# Altium schematic symbol library devkit-visao.SchLib: 57 symbols (part 1 of 2)
Pins are listed as number, name and electrical type; pins without a type are passive.

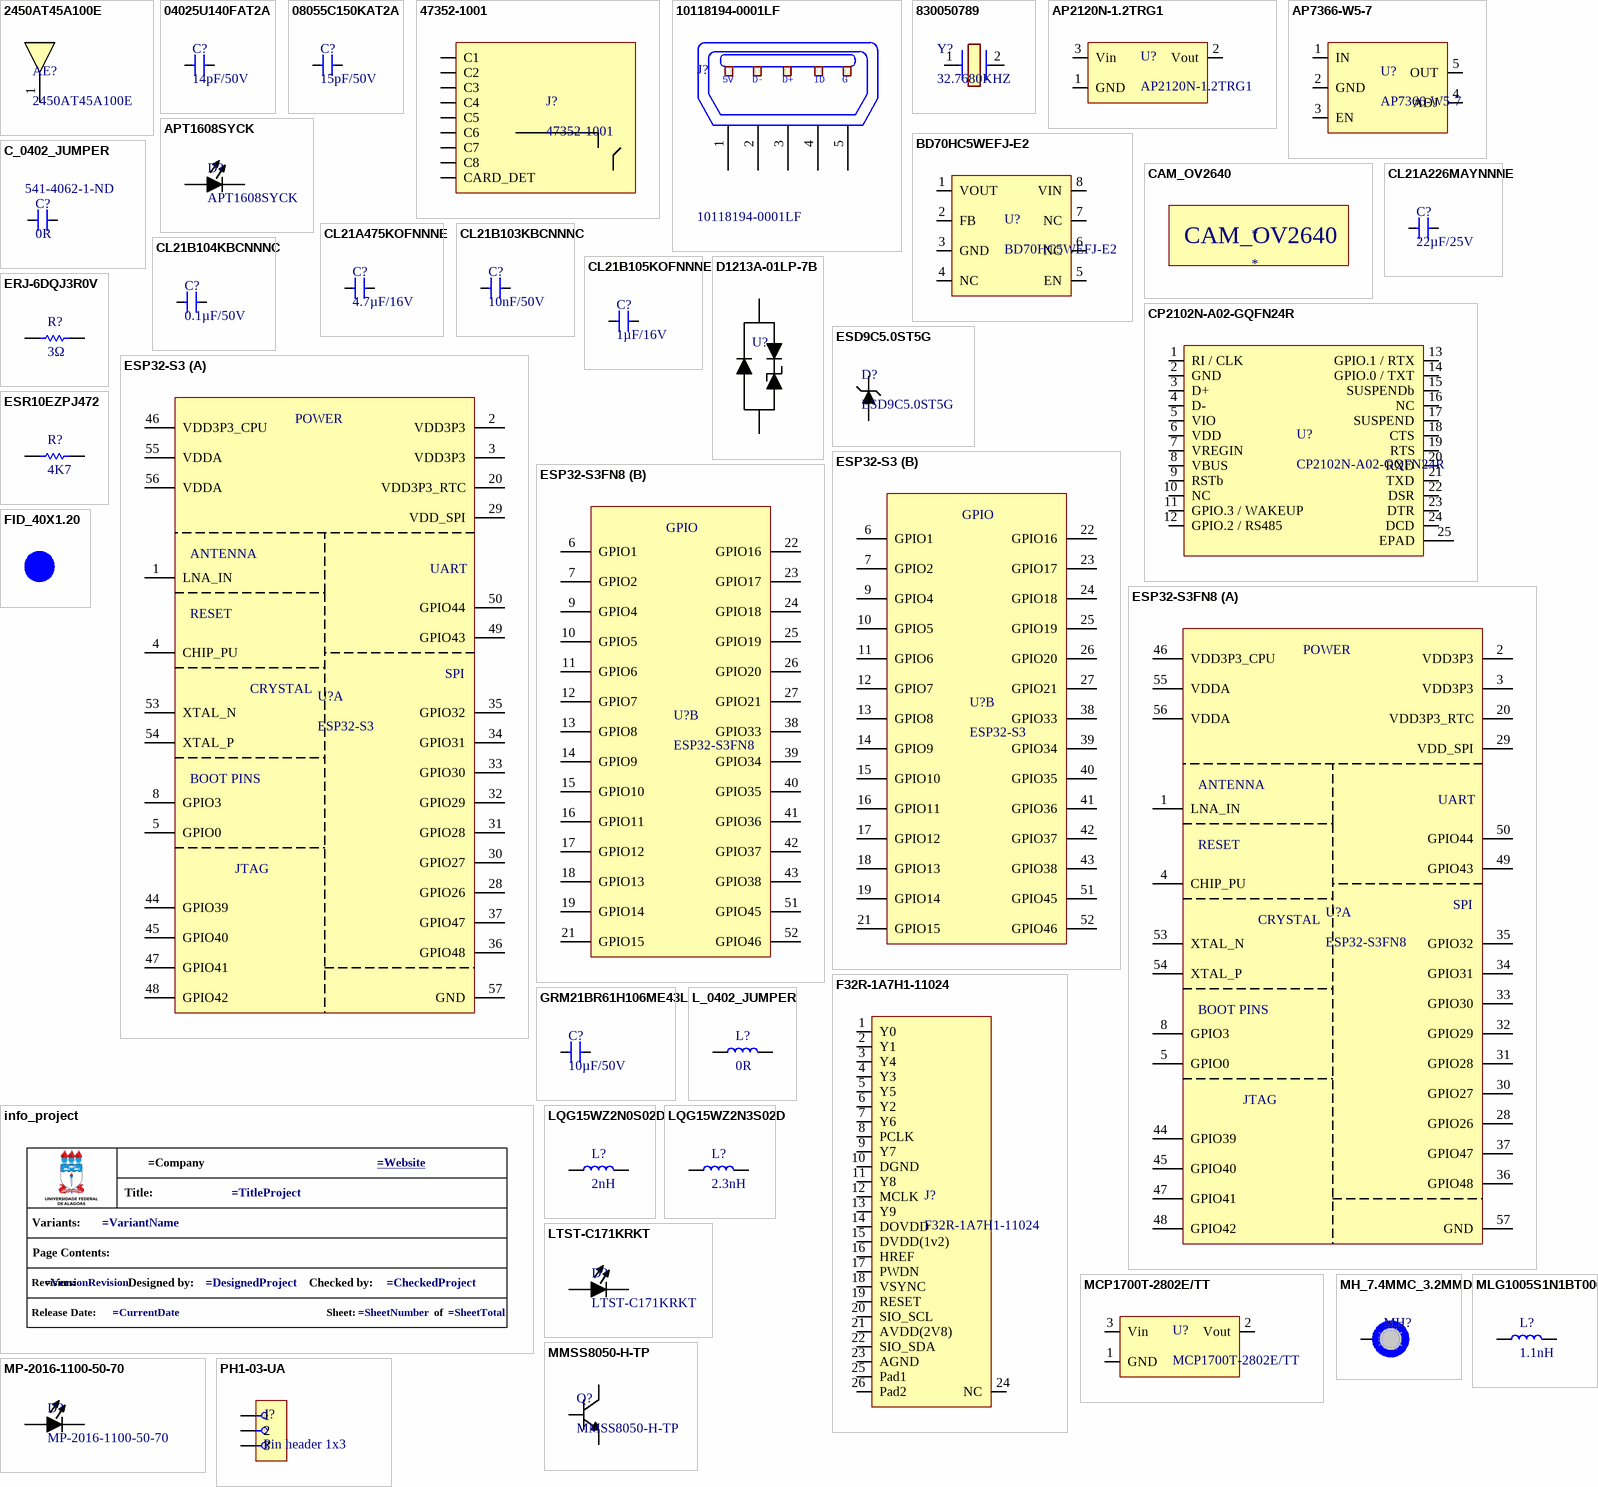
[diagram p0: symbols 2450AT45A100E to PH1-03-UA]

## 2450AT45A100E
designator AE?
RF ANT - 2.4GHZ CHIP SOLDER SMD; Manufacturer 1: Johanson; Impedance: 50R; Power Rating: 3W; Bandwidth: 100MHz; Number of Bands: 1; Return Loss: -9.5dB; Frequency: 2.45GHz; Gain: 1dB; Max Frequency: 2.5GHz; .SCHChecked: Alex Batista; Supplier 1: Digi-Key; Stock 1: 275; Pricing 1: 1=0.94000, 10=0.84100, 25=0.79800, 100=0.65550, 250=0.61276, 500=0.54150 (USD); RoHS: Yes; Mount: Surface Mount; Number of Pins: 2; Min Operating Temperature: -40°C; Max Operating Temperature: 85°C; Package Quantity: 1; Packaging: Tape and Reel; Max Power Dissipation: 3W; Termination: Solder; Resistor Type: Ceramic; Length: 9.5mm; Width: 2mm; Height: 0.047inch; Radiation Hardening: No; REACH SVHC: No SVHC; ComponentLink1URL: https://datasheet.ciiva.com/1126/1296113-1126176.pdf?src-supplier=Newark; ComponentLink1Description: https://datasheet.ciiva.com/1126/1296113-1126176.pdf?src-supplier=Newark; ComponentLink2URL: https://datasheet.ciiva.com/2791/jti-antenna-2450at45a100-2006-07-2791936.pdf?src-supplier=Digi-Key; ComponentLink2Description: https://datasheet.ciiva.com/2791/jti-antenna-2450at45a100-2006-07-2791936.pdf?src-supplier=Digi-Key; ComponentLink3URL: https://datasheet.ciiva.com/6748/antenna-2450at45a100-v5-6748578.pdf?src-supplier=Newark; ComponentLink3Description: https://datasheet.ciiva.com/6748/antenna-2450at45a100-v5-6748578.pdf?src-supplier=Newark; ComponentLink4URL: https://datasheet.ciiva.com/24068/antenna-2450at45a100-v5-242465-24068002.pdf?src-supplier=Mouser; ComponentLink4Description: https://datasheet.ciiva.com/24068/antenna-2450at45a100-v5-242465-24068002.pdf?src-supplier=Mouser; ComponentLink5URL: https://datasheet.ciiva.com/2791/jti-antenna-2450at45a100-2006-07-2791937.pdf?src-supplier=Digi-Key; ComponentLink5Description: https://datasheet.ciiva.com/2791/jti-antenna-2450at45a100-2006-07-2791937.pdf?src-supplier=Digi-Key; ComponentLink6URL: https://datasheet.ciiva.com/2791/jti-antenna-2450at45a100-2006-07-2791938.pdf?src-supplier=Digi-Key; ComponentLink6Description: https://datasheet.ciiva.com/2791/jti-antenna-2450at45a100-2006-07-2791938.pdf?src-supplier=Digi-Key; ComponentLink7URL: https://datasheet.ciiva.com/1124/1318299-1124920.pdf?src-supplier=Element14; ComponentLink7Description: https://datasheet.ciiva.com/1124/1318299-1124920.pdf?src-supplier=Element14; Supplier Part Number 1: 712-1012-1-ND; .PCBChecked: Alex Batista; Manufacturer Part Number 1: 2450AT45A100E
footprint 2450AT45A100E
pins: 1 Feeding Point

## 04025U140FAT2A
designator C?, comment 14pF/50V
MLCC - 14pF 0402 50V NP0 ±1%; Manufacturer 1: Kyocera AVX; Manufacturer Part Number 1: 04025U140FAT2A; Dielectric: C0G; .PCBChecked: Victor H; Supplier 1: Digi-Key; RoHS: Yes; Category: Ceramic Capacitors; Stock 1: 104186; Pricing 1: 1=0,37000, 10=0,25100, 50=0,16760, 100=0,14250, 500=0,10058, 1000=0,08801, 2500=0,08382, 5000=0,07753 (USD); Mount: Surface Mount; Case/Package: 0402; Case Code (Imperial): 0402; Case Code (Metric): 1005; Min Operating Temperature: -55°C; Max Operating Temperature: 125°C; Capacitance: 14pF; Package Quantity: 10000; Voltage Rating: 50V; Voltage Rating (DC): 50V; Tolerance: 1%; Packaging: Tape and Reel; Termination: SMD/SMT; Resistor Type: Ceramic; Series: U; Construction: Flat; Length: 1mm; Width: 0.5mm; Thickness: 0.022inch; Depth: 0.5mm; Radiation Hardening: No; RoHS Compliant: Yes; ComponentLink1URL: https://datasheet.ciiva.com/11568/useries-11568551.pdf?src-supplier=Avnet; ComponentLink1Description: https://datasheet.ciiva.com/11568/useries-11568551.pdf?src-supplier=Avnet; ComponentLink2URL: https://datasheet.ciiva.com/6269/useries-6269558.pdf?src-supplier=Digi-Key; ComponentLink2Description: https://datasheet.ciiva.com/6269/useries-6269558.pdf?src-supplier=Digi-Key; Supplier Part Number 1: 478-10139-1-ND; .SCHChecked: Victor H
footprint C0402
pins: 1, 2

## 08055C150KAT2A
designator C?, comment 15pF/50V
MLCC - 15pF 0805 50V X7R ±10%; Manufacturer 1: Kyocera AVX; Manufacturer Part Number 1: 08055C150KAT2A; .SCHChecked: Victor Holanda; .PCBChecked: Victor Holanda; Supplier 1: Digi-Key; RoHS: Yes; Category: Ceramic Capacitors; Stock 1: 16775; Pricing 1: 1=0,23000, 10=0,15700, 50=0,09400, 100=0,07940, 500=0,05434, 1000=0,04807 (USD); Mount: Surface Mount; Case/Package: 0805; Number of Pins: 2; Case Code (Metric): 2012; Case Code (Imperial): 0805; Min Operating Temperature: -55°C; Max Operating Temperature: 125°C; Packaging: Tape and Reel; Capacitance: 15pF; Tolerance: 10%; Package Quantity: 4000; Voltage Rating: 50V; Voltage Rating (DC): 50V; Dielectric: X7R; Termination: SMD/SMT; Construction: Flat; Length: 2.01mm; Width: 0.049inch; Thickness: 0.037inch; Depth: 1.25mm; Radiation Hardening: No; REACH SVHC: Unknown; Supplier 2: Mouser; Supplier Part Number 1: 478-11902-1-ND; Supplier Part Number 2: 581-08055C150KAT2A
footprint C0805
pins: 1, 2

## 47352-1001
designator J?
CONN - Micro SD Card HDR 8 POS 1.1mm Solder RA SMD 0.5A/Contact Embossed T/R; Manufacturer 1: Molex; Number of Contacts: 8; Gender: Male; Connector Type: Connector; Max Voltage Rating (DC): 100V; Current Rating: 500mA; .SCHChecked: Alex Batista; Supplier 1: Digi-Key; Manufacturer Part Number 1: 47352-1001; RoHS: Yes; Category: Memory Connectors; Stock 1: 14775; Pricing 1: 1=3,58000, 10=3,15500, 100=2,50930 (USD); Mount: Surface Mount; Contact Material: Stainless Steel,Copper Alloy,Copper; Contact Plating: Gold; Housing Material: Polymer; Min Operating Temperature: -20°C; Max Operating Temperature: 85°C; Number of Rows: 1; Packaging: Tape and Reel; Orientation: Right Angle; Package Quantity: 1; Termination: SMD/SMT; Series: 47352; Voltage Rating (DC): 100V; Length: 14mm; Width: 1.88mm; Pitch: 1.1mm; Depth: 15.2mm; Radiation Hardening: No; REACH SVHC: Unknown; ComponentLink1URL: https://datasheet.ciiva.com/683/473521001-sd-683625.pdf?src-supplier=Digi-Key; ComponentLink1Description: https://datasheet.ciiva.com/683/473521001-sd-683625.pdf?src-supplier=Digi-Key; ComponentLink2URL: https://datasheet.ciiva.com/11755/0900766b80f75287-11755041.pdf?src-supplier=RSComponents; ComponentLink2Description: https://datasheet.ciiva.com/11755/0900766b80f75287-11755041.pdf?src-supplier=RSComponents; ComponentLink3URL: https://datasheet.ciiva.com/16547/0473521001-memory-card-socket-16547169.pdf?src-supplier=Avnet+Europe; ComponentLink3Description: https://datasheet.ciiva.com/16547/0473521001-memory-card-socket-16547169.pdf?src-supplier=Avnet+Europe; ComponentLink4URL: https://datasheet.ciiva.com/30105/0473521001-memory-card-socket-30105258.pdf?src-supplier=Onlinecomponents.com; ComponentLink4Description: https://datasheet.ciiva.com/30105/0473521001-memory-card-socket-30105258.pdf?src-supplier=Onlinecomponents.com; ComponentLink5URL: https://datasheet.ciiva.com/683/473521001-sd-683627.pdf?src-supplier=Digi-Key; ComponentLink5Description: https://datasheet.ciiva.com/683/473521001-sd-683627.pdf?src-supplier=Digi-Key; Supplier 2: Mouser; Pricing 2: 1=3,58000, 10=3,16000, 50=3,16000, 100=2,66000, 1000=2,16000, 10000=2,15000 (USD); Supplier Part Number 1: WM3290CT-ND; Supplier Part Number 2: 538-47352-1001; .PCBChecked: Alex Batista
footprint SDCARD-0473521001
pins: 1 C1, 2 C2, 3 C3, 4 C4, 5 C5, 6 C6, 7 C7, 8 C8, 9 CARD_DET

## 10118194-0001LF
designator J?
CONN - Micro USB Type B RCP 5 POS 0.65mm Solder RA SMD 5 Terminal 1 Port T/R; Manufacturer 1: Amphenol ICC; .PCBChecked: Jose Gomes; .SCHChecked: Victor H; ComponentLink1URL: http://components.arrow.com/part/dataview/0323_04107371?src-supplier=Arrow+Europe; ComponentLink1Description: http://components.arrow.com/part/dataview/0323_04107371?src-supplier=Arrow+Europe; ComponentLink2URL: http://uk.rs-online.com/webdocs/1450/0900766b814507ee.pdf?src-supplier=RSComponents; ComponentLink2Description: http://uk.rs-online.com/webdocs/1450/0900766b814507ee.pdf?src-supplier=RSComponents; ComponentLink3URL: https://cdn.amphenol-icc.com/media/wysiwyg/files/documentation/datasheet/inputoutput/io_usb_micro.pdf?src-supplier=Avnet; ComponentLink3Description: https://cdn.amphenol-icc.com/media/wysiwyg/files/documentation/datasheet/inputoutput/io_usb_micro.pdf?src-supplier=Avnet; ComponentLink4URL: https://cdn.amphenol-icc.com/media/wysiwyg/files/documentation/datasheet/inputoutput/io_usb_micro.pdf?src-supplier=Arrow+Electronics; ComponentLink4Description: https://cdn.amphenol-icc.com/media/wysiwyg/files/documentation/datasheet/inputoutput/io_usb_micro.pdf?src-supplier=Arrow+Electronics; ComponentLink5URL: https://cdn.amphenol-icc.com/media/wysiwyg/files/documentation/datasheet/inputoutput/io_usb_micro.pdf?src-supplier=Verical; ComponentLink5Description: https://cdn.amphenol-icc.com/media/wysiwyg/files/documentation/datasheet/inputoutput/io_usb_micro.pdf?src-supplier=Verical; ComponentLink6URL: http://portal.fciconnect.com/Comergent//fci/drawing/10118192.pdf?src-supplier=Avnet+Asia; ComponentLink6Description: http://portal.fciconnect.com/Comergent//fci/drawing/10118192.pdf?src-supplier=Avnet+Asia; ComponentLink7URL: https://cdn.amphenol-icc.com/media/wysiwyg/files/documentation/datasheet/inputoutput/io_usb_micro.pdf?src-supplier=Allied+Electronics; ComponentLink7Description: https://cdn.amphenol-icc.com/media/wysiwyg/files/documentation/datasheet/inputoutput/io_usb_micro.pdf?src-supplier=Allied+Electronics; ComponentLink8URL: http://www.farnell.com/datasheets/2366786.pdf?src-supplier=Newark; ComponentLink8Description: http://www.farnell.com/datasheets/2366786.pdf?src-supplier=Newark; ComponentLink9URL: https://cdn.amphenol-icc.com/media/wysiwyg/files/documentation/datasheet/inputoutput/io_usb_micro.pdf?src-supplier=Mouser; ComponentLink9Description: https://cdn.amphenol-icc.com/media/wysiwyg/files/documentation/datasheet/inputoutput/io_usb_micro.pdf?src-supplier=Mouser; ComponentLink10URL: http://www.amphenol-icc.com/media/wysiwyg/files/drawing/10118192.pdf?src-supplier=Digi-Key; ComponentLink10Description: http://www.amphenol-icc.com/media/wysiwyg/files/drawing/10118192.pdf?src-supplier=Digi-Key; ComponentLink11URL: http://www.farnell.com/cad/1935767.pdf?src-supplier=Element14; ComponentLink11Description: http://www.farnell.com/cad/1935767.pdf?src-supplier=Element14; ComponentLink12URL: http://www.farnell.com/datasheets/2366786.pdf?src-supplier=Farnell; ComponentLink12Description: http://www.farnell.com/datasheets/2366786.pdf?src-supplier=Farnell; ComponentLink13URL: https://cdn.amphenol-icc.com/media/wysiwyg/files/documentation/datasheet/inputoutput/io_usb_micro.pdf?src-supplier=TME; ComponentLink13Description: https://cdn.amphenol-icc.com/media/wysiwyg/files/documentation/datasheet/inputoutput/io_usb_micro.pdf?src-supplier=TME; ComponentLink14URL: https://cdn.amphenol-icc.com/media/wysiwyg/files/documentation/datasheet/inputoutput/io_usb_micro.pdf?src-supplier=TTI; ComponentLink14Description: https://cdn.amphenol-icc.com/media/wysiwyg/files/documentation/datasheet/inputoutput/io_usb_micro.pdf?src-supplier=TTI; ComponentLink15URL: https://cdn.amphenol-icc.com/media/wysiwyg/files/documentation/datasheet/inputoutput/io_usb_micro.pdf?src-supplier=NAC+Semi; ComponentLink15Description: https://cdn.amphenol-icc.com/media/wysiwyg/files/documentation/datasheet/inputoutput/io_usb_micro.pdf?src-supplier=NAC+Semi; ComponentLink16URL: https://cdn.amphenol-icc.com/media/wysiwyg/files/documentation/datasheet/inputoutput/io_usb_micro.pdf?src-supplier=SOS+electronic; ComponentLink16Description: https://cdn.amphenol-icc.com/media/wysiwyg/files/documentation/datasheet/inputoutput/io_usb_micro.pdf?src-supplier=SOS+electronic; ComponentLink17URL: https://cdn.amphenol-icc.com/media/wysiwyg/files/documentation/datasheet/inputoutput/io_usb_micro.pdf?src-supplier=Freelance+Electronics; ComponentLink17Description: https://cdn.amphenol-icc.com/media/wysiwyg/files/documentation/datasheet/inputoutput/io_usb_micro.pdf?src-supplier=Freelance+Electronics; ComponentLink18URL: https://cdn.amphenol-icc.com/media/wysiwyg/files/documentation/datasheet/inputoutput/io_usb_micro.pdf?src-supplier=Heilind+Electronics; ComponentLink18Description: https://cdn.amphenol-icc.com/media/wysiwyg/files/documentation/datasheet/inputoutput/io_usb_micro.pdf?src-supplier=Heilind+Electronics; ComponentLink19URL: https://datasheet.ciiva.com/3094/1050170001-io-connectors-3094416.pdf?src-supplier=Avnet; ComponentLink19Description: https://datasheet.ciiva.com/3094/1050170001-io-connectors-3094416.pdf?src-supplier=Avnet; ComponentLink20URL: https://datasheet.ciiva.com/30165/235271050170001-io-nectors-30165183.pdf?src-supplier=Onlinecomponents.com; ComponentLink20Description: https://datasheet.ciiva.com/30165/235271050170001-io-nectors-30165183.pdf?src-supplier=Onlinecomponents.com; ComponentLink21URL: https://datasheet.ciiva.com/5742/1598502-5742508.pdf?src-supplier=Farnell; ComponentLink21Description: https://datasheet.ciiva.com/5742/1598502-5742508.pdf?src-supplier=Farnell; ComponentLink22URL: https://datasheet.ciiva.com/8015/1631959-8015288.pdf?src-supplier=Element14; ComponentLink22Description: https://datasheet.ciiva.com/8015/1631959-8015288.pdf?src-supplier=Element14; ComponentLink23URL: https://datasheet.ciiva.com/22654/1688140-22654924.pdf?src-supplier=Element14; ComponentLink23Description: https://datasheet.ciiva.com/22654/1688140-22654924.pdf?src-supplier=Element14; ComponentLink24URL: https://datasheet.ciiva.com/4598/1050170001-io-connectors-152207-4598759.pdf?src-supplier=Mouser; ComponentLink24Description: https://datasheet.ciiva.com/4598/1050170001-io-connectors-152207-4598759.pdf?src-supplier=Mouser; ComponentLink25URL: https://datasheet.ciiva.com/851/1050170001-sd-851276.pdf?src-supplier=Digi-Key; ComponentLink25Description: https://datasheet.ciiva.com/851/1050170001-sd-851276.pdf?src-supplier=Digi-Key; ComponentLink26URL: https://datasheet.ciiva.com/16668/1050170001-io-connectors-16668598.pdf?src-supplier=Avnet+Europe; ComponentLink26Description: https://datasheet.ciiva.com/16668/1050170001-io-connectors-16668598.pdf?src-supplier=Avnet+Europe; ComponentLink27URL: https://datasheet.ciiva.com/851/1050170001-sd-851277.pdf?src-supplier=Digi-Key; ComponentLink27Description: https://datasheet.ciiva.com/851/1050170001-sd-851277.pdf?src-supplier=Digi-Key; ComponentLink28URL: https://datasheet.ciiva.com/851/1050170001-sd-851278.pdf?src-supplier=Digi-Key; ComponentLink28Description: https://datasheet.ciiva.com/851/1050170001-sd-851278.pdf?src-supplier=Digi-Key; ComponentLink29URL: http://components.arrow.com/part/dataview/0323_04107373?src-supplier=Arrow+Europe; ComponentLink29Description: http://components.arrow.com/part/dataview/0323_04107373?src-supplier=Arrow+Europe; ComponentLink30URL: https://cdn.amphenol-icc.com/media/wysiwyg/files/drawing/10118194.pdf?src-supplier=Avnet; ComponentLink30Description: https://cdn.amphenol-icc.com/media/wysiwyg/files/drawing/10118194.pdf?src-supplier=Avnet; ComponentLink31URL: https://cdn.amphenol-icc.com/media/wysiwyg/files/drawing/10118194.pdf?src-supplier=Mouser; ComponentLink31Description: https://cdn.amphenol-icc.com/media/wysiwyg/files/drawing/10118194.pdf?src-supplier=Mouser; ComponentLink32URL: http://www.amphenol-icc.com/media/wysiwyg/files/drawing/10118194.pdf?src-supplier=Digi-Key; ComponentLink32Description: http://www.amphenol-icc.com/media/wysiwyg/files/drawing/10118194.pdf?src-supplier=Digi-Key; ComponentLink33URL: http://www.farnell.com/cad/2354948.pdf?src-supplier=Farnell; ComponentLink33Description: http://www.farnell.com/cad/2354948.pdf?src-supplier=Farnell; ComponentLink34URL: https://cdn.amphenol-icc.com/media/wysiwyg/files/drawing/10118194.pdf?src-supplier=RSComponents; ComponentLink34Description: https://cdn.amphenol-icc.com/media/wysiwyg/files/drawing/10118194.pdf?src-supplier=RSComponents; ComponentLink35URL: https://cdn.amphenol-icc.com/media/wysiwyg/files/drawing/10118194.pdf?src-supplier=Allied+Electronics; ComponentLink35Description: https://cdn.amphenol-icc.com/media/wysiwyg/files/drawing/10118194.pdf?src-supplier=Allied+Electronics; ComponentLink36URL: https://cdn.amphenol-icc.com/media/wysiwyg/files/drawing/10118194.pdf?src-supplier=Verical; ComponentLink36Description: https://cdn.amphenol-icc.com/media/wysiwyg/files/drawing/10118194.pdf?src-supplier=Verical; ComponentLink37URL: https://cdn.amphenol-icc.com/media/wysiwyg/files/drawing/10118194.pdf?src-supplier=Arrow+Electronics; ComponentLink37Description: https://cdn.amphenol-icc.com/media/wysiwyg/files/drawing/10118194.pdf?src-supplier=Arrow+Electronics; ComponentLink38URL: https://cdn.amphenol-icc.com/media/wysiwyg/files/drawing/10118194.pdf?src-supplier=TTI; ComponentLink38Description: https://cdn.amphenol-icc.com/media/wysiwyg/files/drawing/10118194.pdf?src-supplier=TTI; ComponentLink39URL: https://cdn.amphenol-icc.com/media/wysiwyg/files/drawing/10118194.pdf?src-supplier=NAC+Semi; ComponentLink39Description: https://cdn.amphenol-icc.com/media/wysiwyg/files/drawing/10118194.pdf?src-supplier=NAC+Semi; ComponentLink40URL: https://cdn.amphenol-icc.com/media/wysiwyg/files/drawing/10118194.pdf?src-supplier=SOS+electronic; ComponentLink40Description: https://cdn.amphenol-icc.com/media/wysiwyg/files/drawing/10118194.pdf?src-supplier=SOS+electronic; ComponentLink41URL: https://cdn.amphenol-icc.com/media/wysiwyg/files/drawing/10118194.pdf?src-supplier=Quest; ComponentLink41Description: https://cdn.amphenol-icc.com/media/wysiwyg/files/drawing/10118194.pdf?src-supplier=Quest; ComponentLink42URL: https://cdn.amphenol-icc.com/media/wysiwyg/files/drawing/10118194.pdf?src-supplier=Heilind+Electronics; ComponentLink42Description: https://cdn.amphenol-icc.com/media/wysiwyg/files/drawing/10118194.pdf?src-supplier=Heilind+Electronics; ComponentLink43URL: https://cdn.amphenol-icc.com/media/wysiwyg/files/drawing/10118194.pdf?src-supplier=TME; ComponentLink43Description: https://cdn.amphenol-icc.com/media/wysiwyg/files/drawing/10118194.pdf?src-supplier=TME; Supplier 1: Digi-Key; Manufacturer Part Number 1: 10118194-0001LF; RoHS: Yes; Category: USB Connectors; Stock 1: 169666; Pricing 1: 1=0,480000, 10=0,420000, 25=0,384400, 50=0,361600, 100=0,346600, 250=0,316400, 500=0,301360 (USD); RoHS Compliant: Yes; ComponentLink44URL: http://www.farnell.com/cad/2354948.pdf?src-supplier=Element14; ComponentLink44Description: http://www.farnell.com/cad/2354948.pdf?src-supplier=Element14; Supplier 2: Mouser; Supplier Part Number 1: 609-4618-1-ND; Supplier Part Number 2: 649-10118194-0001LF
footprint 10118194-0001LF
pins: 1, 2, 3, 4, 5
text: 5V; D-; D+; ID; G

## 830050789
designator Y?, comment 32.7680KHZ
Crystal - 32.7680KHZ 12.5PF SMD; Manufacturer 1: Wurth Elektronik; Manufacturer Part Number 1: 830050789; Datasheet Link: https://www.we-online.com/catalog/datasheet/830050789.pdf; Height: 0.6mm; Mouser Part Number: 710-830050789; Mouser Price/Stock: https://www.mouser.co.uk/ProductDetail/Wurth-Elektronik/830050789?qs=2WXlatMagcG%2Fhb4pC63Fuw%3D%3D
footprint 830050789
pins: 1, 2

## AP2120N-1.2TRG1
designator U?
IC - REG LINEAR 1.2V 150MA SOT23; Manufacturer 1: Diodes; Dropout Voltage: 900mV; Number of Outputs: 1; Min Input Voltage: 2V; Max Input Voltage: 6V; Polarity: Positive; Quiescent Current: 50uA; Accuracy: 2%; Output Type: Fixed; Power Supply Rejection Ratio (PSRR): 65dB; .PCBCheckd: Victor H; Supplier 1: Digi-Key; Manufacturer Part Number 1: AP2120N-1.2TRG1; RoHS: Yes; Category: Voltage Regulators - Linear; Stock 1: 16523; Pricing 1: 1=0,40000, 10=0,29500, 25=0,25840, 100=0,16710, 250=0,13832, 500=0,11066, 1000=0,08484 (USD); Mount: Surface Mount; Case/Package: TO-236-3; Number of Pins: 3; Min Operating Temperature: -40°C; Max Operating Temperature: 85°C; Package Quantity: 3000; Packaging: Tape and Reel; Output Voltage: 1.2V; Output Current: 150mA; Number of Regulators: 1; Max Output Current: 150mA; Output Configuration: Positive; Min Output Voltage: 1.2V; RoHS Compliant: Yes; ComponentLink1URL: https://datasheet.ciiva.com/29569/ap2120-29569091.pdf?src-supplier=Digi-Key; ComponentLink1Description: https://datasheet.ciiva.com/29569/ap2120-29569091.pdf?src-supplier=Digi-Key; Supplier Part Number 1: AP2120N-1.2TRG1DICT-ND; .SCHChecked: Victor H; mounting: SMD
footprint AP2120N-1.2TRG1
pins: 1 GND, 2 Vout, 3 Vin

## AP7366-W5-7
designator U?
IC - LDO Regulator Positive Adj 0.8V to 5V 600mA 5-Pin SOT-25 T/R; Manufacturer: Diodes; Supplier 1: Digi-Key; Manufacturer Part Number: AP7366-W5-7; RoHS: Yes; Stock 1: 371289; Pricing 1: 1=0,42000, 10=0,31700, 25=0,28640, 100=0,19780, 250=0,16656, 500=0,13532, 1000=0,10409 (USD); ComponentLink1URL: https://www.diodes.com/assets/Datasheets/AP7366.pdf?src-supplier=Digi-Key; ComponentLink1Description: https://www.diodes.com/assets/Datasheets/AP7366.pdf?src-supplier=Digi-Key; Supplier Part Number 1: AP7366-W5-7DICT-ND
footprint AP7366-W5-7
pins: 1 IN, 2 GND, 3 EN, 4 ADJ, 5 OUT

## APT1608SYCK
designator D?
LED - APT1608SYCK Yellow LED; 590 nm 1608 (0603) Clear; Rectangle Lens SMD package; Manufacturer: Kingbright; .SCHChecked: Victor H; Viewing Angle: 120°; Forward Current: 20mA; Forward Voltage: 2V; Luminous Intensity: 150mcd; Dominant Wavelength: 590nm; Lens Style: Clear,Flat; Number of LEDs: 1; .PCBChecked: Victor H; mounting: SMD; Supplier 1: Digi-Key; Manufacturer Part Number: APT1608SYCK; RoHS: Yes; Category: LEDs; Stock 1: 448438; Pricing 1: 1=0,31000, 10=0,24100, 100=0,10840, 500=0,09794, 1000=0,08045 (USD); Mount: Surface Mount; Case/Package: 0603; Number of Pins: 2; Lens Color: Clear; Color: Yellow; Case Code (Metric): 1608; Case Code (Imperial): 0603; Min Operating Temperature: -40°C; Max Operating Temperature: 85°C; Package Quantity: 2000; Packaging: Tape and Reel; Illumination Color: Yellow; Test Current: 20mA; Wavelength: 590nm; Series: APT; Length: 1.6mm; Width: 0.8mm; Height: 0.75mm; Lead Free: Lead Free; RoHS Compliant: Yes; ComponentLink1URL: https://datasheet.ciiva.com/2113/apt1608syck-2113824.pdf?src-supplier=Digi-Key; ComponentLink1Description: https://datasheet.ciiva.com/2113/apt1608syck-2113824.pdf?src-supplier=Digi-Key; ComponentLink2URL: https://datasheet.ciiva.com/4688/apt1608syck-35136-4688900.pdf?src-supplier=Mouser; ComponentLink2Description: https://datasheet.ciiva.com/4688/apt1608syck-35136-4688900.pdf?src-supplier=Mouser; ComponentLink3URL: https://datasheet.ciiva.com/2113/apt1608syck-2113825.pdf?src-supplier=Digi-Key; ComponentLink3Description: https://datasheet.ciiva.com/2113/apt1608syck-2113825.pdf?src-supplier=Digi-Key; ComponentLink4URL: https://datasheet.ciiva.com/2113/apt1608syck-2113826.pdf?src-supplier=Digi-Key; ComponentLink4Description: https://datasheet.ciiva.com/2113/apt1608syck-2113826.pdf?src-supplier=Digi-Key; ComponentLink5URL: https://datasheet.ciiva.com/14603/70062842-14603786.pdf?src-supplier=Allied+Electronics; ComponentLink5Description: https://datasheet.ciiva.com/14603/70062842-14603786.pdf?src-supplier=Allied+Electronics; Supplier Part Number 1: 754-1124-1-ND
footprint APT1608SYCK
pins: 1 "anode", 2 "cathode"

## BD70HC5WEFJ-E2
designator U?
IC - LDO Voltage Controllers LDO Reg Pos 7.0V 1.5A; Manufacturer 1: Rohm; Max Power Dissipation: 2.11W; Dropout Voltage: 600mV; Max Input Voltage: 8V; Output Voltage: 7V; Number of Outputs: 1; Min Input Voltage: 4.5V; Output Type: Fixed; .PCBChecked: Victor H; Supplier 1: Digi-Key; Manufacturer Part Number 1: BD70HC5WEFJ-E2; RoHS: Yes; Category: Voltage Regulators - Linear; Stock 1: 4936; Pricing 1: 1=0,75000, 10=0,65800, 25=0,61760, 100=0,50420, 250=0,46832, 500=0,39856, 1000=0,31885 (USD); Mount: Surface Mount; Number of Pins: 8; Min Operating Temperature: -25°C; Max Operating Temperature: 85°C; Packaging: Tape and Reel; Package Quantity: 1; Output Current: 1.5A; Number of Regulators: 1; Series: -; Lead Free: Lead Free; RoHS Compliant: Yes; ComponentLink1URL: https://datasheet.ciiva.com/12217/bd70hc5wefj-214377-12217508.pdf?src-supplier=Mouser; ComponentLink1Description: https://datasheet.ciiva.com/12217/bd70hc5wefj-214377-12217508.pdf?src-supplier=Mouser; ComponentLink2URL: https://datasheet.ciiva.com/6584/bdxxhc5wefj-e-6584252.pdf?src-supplier=Digi-Key; ComponentLink2Description: https://datasheet.ciiva.com/6584/bdxxhc5wefj-e-6584252.pdf?src-supplier=Digi-Key; ComponentLink3URL: https://datasheet.ciiva.com/6584/bdxxhc5wefj-e-6584253.pdf?src-supplier=Digi-Key; ComponentLink3Description: https://datasheet.ciiva.com/6584/bdxxhc5wefj-e-6584253.pdf?src-supplier=Digi-Key; ComponentLink4URL: https://datasheet.ciiva.com/6584/bdxxhc5wefj-e-6584254.pdf?src-supplier=Digi-Key; ComponentLink4Description: https://datasheet.ciiva.com/6584/bdxxhc5wefj-e-6584254.pdf?src-supplier=Digi-Key; Supplier Part Number 1: BD70HC5WEFJ-E2CT-ND; .SCHChecked: Victor H
footprint BD70HC5WEFJ-E2
pins: 1 VOUT, 2 FB, 3 GND, 4 NC, 5 EN, 6 NC, 7 NC, 8 VIN

## C_0402_JUMPER
designator C?, comment 0R  Supplier Part Number 1: 541-4062-1-ND
MLCC - 0R 0402 JUMPER; Manufacturer 1: Vishay; Manufacturer Part Number 1: CRCW04020000Z0EDC; .SCHChecked: Victor Holanda; Power Rating: 62.5mW; Resistance: 18R; .PCBChecked: Victor Holanda; Supplier 1: Digi-Key; RoHS: Yes; Category: Chip SMD Resistors; Stock 1: 109511; Pricing 1: 1=0,10000, 10=0,02300, 100=0,00950, 1000=0,00427, 2500=0,00370, 5000=0,00306 (USD); Mount: Surface Mount; Case/Package: Molded; Contact Plating: Tin; Min Operating Temperature: -55°C; Max Operating Temperature: 155°C; Resistor Type: Thick Film; Termination: Wraparound; Length: 1mm; Lead Free: Lead Free; RoHS Compliant: Yes; ComponentLink1URL: http://www.vishay.com/docs/28773/crcwce3.pdf?src-supplier=Digi-Key; ComponentLink1Description: http://www.vishay.com/docs/28773/crcwce3.pdf?src-supplier=Digi-Key; ComponentLink2URL: http://www.vishay.com/docs/20035/dcrcwe3.pdf?src-supplier=Avnet; ComponentLink2Description: http://www.vishay.com/docs/20035/dcrcwe3.pdf?src-supplier=Avnet
footprint C0402
pins: 1, 2

## CAM_OV2640
designator *  (mechanical)

## CL21A226MAYNNNE
designator C?, comment 22µF/25V
MLCC - 22µF 0805 25V X5R ±20%; Manufacturer 1: Samsung; Manufacturer Part Number 1: CL21A226MAYNNNE; .SCHChecked: Victor Holanda; .PCBChecked: Victor Holanda; Supplier 1: Digi-Key; RoHS: Yes; Category: Ceramic Capacitors; Stock 1: 479145; Pricing 1: 1=0,34000, 10=0,23100, 50=0,15380, 100=0,13070, 500=0,09224, 1000=0,08071 (USD); RoHS Compliant: Yes; Supplier 2: Mouser; Supplier Part Number 1: 1276-CL21A226MAYNNNECT-ND; Supplier Part Number 2: 187-CL21A226MAYNNNE
footprint C0805
pins: 1, 2

## CL21A475KOFNNNE
designator C?, comment 4.7µF/16V
MLCC - 4.7µF 0805 16V X5R ±10%; Manufacturer 1: Samsung; Manufacturer Part Number 1: CL21A475KOFNNNE; .SCHChecked: Victor Holanda; Capacitance: 4.7uF; .PCBChecked: Victor Holanda; Supplier 1: Digi-Key; RoHS: Yes; Category: Ceramic Capacitors; Stock 1: 605133; Pricing 1: 1=0,12000, 10=0,08600, 50=0,04880, 100=0,04050, 500=0,02838, 1000=0,02350 (USD); Mount: Surface Mount; Case/Package: 0805; Case Code (Metric): 2012; Case Code (Imperial): 0805; Contact Plating: Tin; Min Operating Temperature: -55°C; Max Operating Temperature: 85°C; Packaging: Tape and Reel; Tolerance: 10%; Voltage Rating: 16V; Dielectric: X5R; Series: CL; Construction: Flat; Length: 2mm; Width: 0.049inch; Height: 1.25mm; Thickness: 0.053inch; Depth: 1.25mm; Radiation Hardening: No; RoHS Compliant: Yes; ComponentLink3URL: https://datasheet.ciiva.com/25710/cl21a475kofnnne-25710354.pdf?src-supplier=Digi-Key; ComponentLink3Description: https://datasheet.ciiva.com/25710/cl21a475kofnnne-25710354.pdf?src-supplier=Digi-Key; ComponentLink4URL: https://datasheet.ciiva.com/16740/cl21a475kofnnne-16740646.pdf?src-supplier=Future+Electronics; ComponentLink4Description: https://datasheet.ciiva.com/16740/cl21a475kofnnne-16740646.pdf?src-supplier=Future+Electronics; ComponentLink5URL: https://datasheet.ciiva.com/26838/getdatasheetpartid-357424-26838625.pdf?src-supplier=Verical; ComponentLink5Description: https://datasheet.ciiva.com/26838/getdatasheetpartid-357424-26838625.pdf?src-supplier=Verical; Supplier Part Number 1: 1276-1065-1-ND
footprint C0805
pins: 1, 2

## CL21B103KBCNNNC
designator C?, comment 10nF/50V
MLCC - 10nF 0805 50V X7R ±10%; Manufacturer 1: Samsung; Manufacturer Part Number 1: CL21B103KBCNNNC; .SCHChecked: Victor Holanda; .PCBChecked: Victor Holanda; Supplier 1: Digi-Key; RoHS: Yes; Category: Ceramic Capacitors; Stock 1: 106601; Pricing 1: 1=0,10000, 10=0,05000, 50=0,02700, 100=0,02210, 500=0,01578, 1000=0,01240 (USD); Mount: Surface Mount; Case/Package: 0805; Case Code (Metric): 2012; Case Code (Imperial): 0805; Contact Plating: Tin; Min Operating Temperature: -55°C; Max Operating Temperature: 125°C; Voltage Rating: 50V; Packaging: Tape and Reel; Capacitance: 10nF; Tolerance: 10%; Dielectric: X7R; Voltage Rating (DC): 50V; Series: CL; Construction: Flat; Length: 2mm; Width: 0.049inch; Height: 0.85mm; Thickness: 0.037inch; Depth: 1.25mm; Radiation Hardening: No; Lead Free: Lead Free; RoHS Compliant: Yes; ComponentLink6URL: https://datasheet.ciiva.com/26920/getdatasheetpartid-640087-26920198.pdf?src-supplier=Verical; ComponentLink6Description: https://datasheet.ciiva.com/26920/getdatasheetpartid-640087-26920198.pdf?src-supplier=Verical; Supplier Part Number 1: 1276-1078-1-ND
footprint C0805
pins: 1, 2

## CL21B104KBCNNNC
designator C?, comment 0.1µF/50V
MLCC - 0.1µF 0805 50V X7R ±10%; Manufacturer 1: Samsung; Manufacturer Part Number 1: CL21B104KBCNNNC; .SCHChecked: Victor Holanda; Material: Ceramic; Capacitance: 100nF; .PCBChecked: Victor Holanda; Supplier 1: Digi-Key; RoHS: Yes; Category: Ceramic Capacitors; Stock 1: 3198898; Pricing 1: 1=0,10000, 10=0,04800, 50=0,02620, 100=0,02140, 500=0,01528, 1000=0,01201 (USD); Mount: Surface Mount; Case/Package: 0805; Case Code (Metric): 2012; Case Code (Imperial): 0805; Contact Plating: Tin; Min Operating Temperature: -55°C; Max Operating Temperature: 125°C; Tolerance: 10%; Dielectric: X7R; Packaging: Tape and Reel; Voltage Rating: 50V; Voltage: 50V; Voltage Rating (DC): 50V; Series: CL; Construction: Flat; Length: 2mm; Width: 0.049inch; Height: 0.85mm; Depth: 1.25mm; Thickness: 0.037inch; Radiation Hardening: No; Lead Free: Lead Free; RoHS Compliant: Yes; ComponentLink3URL: https://datasheet.ciiva.com/25710/cl21b104kbcnnnc-25710182.pdf?src-supplier=Digi-Key; ComponentLink3Description: https://datasheet.ciiva.com/25710/cl21b104kbcnnnc-25710182.pdf?src-supplier=Digi-Key; Supplier 2: Mouser; Supplier Part Number 1: 1276-1003-1-ND; Supplier Part Number 2: 187-CL21B104KBCNNNC
footprint C0805
pins: 1, 2

## CL21B105KOFNNNE
designator C?, comment 1µF/16V
MLCC - 1µF 0805 16V X7R ±10%; Manufacturer 1: Samsung; Manufacturer Part Number 1: CL21B105KOFNNNE; .SCHChecked: Victor Holanda; Capacitance: 1uF; .PCBChecked: Victor Holanda; Supplier 1: Digi-Key; RoHS: Yes; Category: Ceramic Capacitors; Stock 1: 1044699; Pricing 1: 1=0,10000, 10=0,05600, 50=0,03060, 100=0,02500, 500=0,01782, 1000=0,01401 (USD); Mount: Surface Mount; Case/Package: 0805; Case Code (Metric): 2012; Case Code (Imperial): 0805; Contact Plating: Tin; Min Operating Temperature: -55°C; Max Operating Temperature: 125°C; Tolerance: 10%; Package Quantity: 1; Packaging: Tape and Reel; Voltage Rating: 16V; Dielectric: X7R; Voltage Rating (DC): 16V; Series: CL; Construction: Flat; Voltage: 16V; Length: 2mm; Width: 0.049inch; Height: 1.25mm; Thickness: 0.053inch; Depth: 1.25mm; Radiation Hardening: No; Lead Free: Lead Free; RoHS Compliant: Yes; ComponentLink3URL: https://datasheet.ciiva.com/25800/cl21b105kofnnne-25800257.pdf?src-supplier=Digi-Key; ComponentLink3Description: https://datasheet.ciiva.com/25800/cl21b105kofnnne-25800257.pdf?src-supplier=Digi-Key; Supplier Part Number 1: 1276-1026-1-ND
footprint C0805
pins: 1, 2

## CP2102N-A02-GQFN24R
designator U?
IC - Full Speed USB to UART Bridge USB 2.0 3.3V T/R Automotive 24-Pin QFN EP; Manufacturer 1: Silicon Labs; .PCBChecked: Victor H; Supplier 1: Digi-Key; Manufacturer Part Number 1: CP2102N-A02-GQFN24R; RoHS: Yes; Category: Interface ICs; Stock 1: 31086; Pricing 1: 1=2,16000 (USD); Supplier 2: Mouser; Supplier Part Number 1: 336-5888-1-ND; .SCHChecked: Victor H; Supplier Part Number 2: 634-CP2102NA02QFN24R
footprint CP2102N-A02-GQFN24
pins: 1 RI / CLK, 2 GND, 3 D+, 4 D-, 5 VIO, 6 VDD, 7 VREGIN, 8 VBUS, 9 RSTb, 10 NC, 11 GPIO.3 / WAKEUP, 12 GPIO.2 / RS485, 13 GPIO.1 / RTX, 14 GPIO.0 / TXT, 15 SUSPENDb, 16 NC, 17 SUSPEND, 18 CTS, 19 RTS, 20 RXD, 21 TXD, 22 DSR, 23 DTR, 24 DCD, 25 EPAD

## D1213A-01LP-7B
designator U?  (value not drawn)
DIODE - DIODE 3.3VWM 10VC DFN1006-2; Manufacturer 1: Diodes; .SCHChecked: Victor H; Direction: Unidirectional; Capacitance: 1.2pF; Max Surge Current: 5A; Working Voltage: 3.3V; Breakdown Voltage: 6V; Clamping Voltage: 10V; Max Power Dissipation: 250mW; Number of Unidirectional Channels: 1; Power Line Protection: No; ESD Protection: Yes; Max Reverse Leakage Current: 1uA; Test Current: 1mA; Element Configuration: Single; Peak Pulse Current: 1A; Diode Type: ZENER; mouting: SMD; ComponentLink1URL: http://www.onsemi.com/pub/Collateral/ESD8101-D.PDF?src-supplier=Digi-Key; ComponentLink1Description: http://www.onsemi.com/pub/Collateral/ESD8101-D.PDF?src-supplier=Digi-Key; .PCBChecked: Victor H; Supplier 1: Digi-Key; Manufacturer Part Number 1: D1213A-01LP-7B; RoHS: Yes; Category: TVS Diodes; Stock 1: 655755; Pricing 1: 1=0,42000, 10=0,34100, 100=0,18060, 500=0,11880, 1000=0,08078, 2000=0,07287, 5000=0,06336 (USD); Mount: Surface Mount; Case/Package: DFN; Number of Pins: 2; Contact Plating: Gold; Min Operating Temperature: -65°C; Max Operating Temperature: 150°C; Packaging: Tape and Reel; Package Quantity: 10000; Polarity: Unidirectional; Termination: SMD/SMT; Reverse Standoff Voltage: 3.3V; Min Breakdown Voltage: 6V; Leakage Current: 1uA; Resistor Type: Zener; Series: Automotive, AEC-Q101; Length: 1mm; Width: 0.675mm; Height: 0.48mm; Depth: 0.6mm; Radiation Hardening: No; Lead Free: Lead Free; REACH SVHC: No SVHC; RoHS Compliant: Yes; ComponentLink2URL: https://datasheet.ciiva.com/6578/d1213a-01lp-6578156.pdf?src-supplier=Digi-Key; ComponentLink2Description: https://datasheet.ciiva.com/6578/d1213a-01lp-6578156.pdf?src-supplier=Digi-Key; ComponentLink3URL: https://datasheet.ciiva.com/25630/0900766b8115c31f-25630728.pdf?src-supplier=RSComponents; ComponentLink3Description: https://datasheet.ciiva.com/25630/0900766b8115c31f-25630728.pdf?src-supplier=RSComponents; ComponentLink4URL: https://datasheet.ciiva.com/12326/d1213a-01lp-218836-12326634.pdf?src-supplier=Mouser; ComponentLink4Description: https://datasheet.ciiva.com/12326/d1213a-01lp-218836-12326634.pdf?src-supplier=Mouser; Supplier Part Number 1: D1213A-01LP-7BDICT-ND
footprint D1213A-01LP-7B
pins: 1, 2

## ERJ-6DQJ3R0V
designator R?, comment 3Ω
RES - 3Ω 1/2W 0805 ±5%; Manufacturer 1: Panasonic; Manufacturer Part Number 1: ERJ-6DQJ3R0V; Resistance: 3R; Max Power Dissipation: 500mW; Temperature Coefficient: 100ppm/°C; .SCHChecked: Victor H; Supplier 1: Digi-Key; RoHS: Yes; Category: Chip SMD Resistors; Stock 1: 5000; Pricing 1: 1=0,24000, 10=0,20600, 25=0,15000, 50=0,10880, 100=0,08070, 250=0,06192, 500=0,04878, 1000=0,03377 (USD); Case/Package: 0805; Case Code (Metric): 2012; Case Code (Imperial): 0805; Min Operating Temperature: -55°C; Max Operating Temperature: 155°C; Packaging: Tape and Reel; Resistor Type: Thick Film; Number of Terminations: 2; Tolerance: 5%; Features: Automotive AEC-Q200; Length: 0.079inch; Width: 0.049inch; Height: 0.028inch; ComponentLink1URL: https://industrial.panasonic.com/cdbs/www-data/pdf/RDN0000/AOA0000C313.pdf?src-supplier=Digi-Key; ComponentLink1Description: https://industrial.panasonic.com/cdbs/www-data/pdf/RDN0000/AOA0000C313.pdf?src-supplier=Digi-Key; Supplier Part Number 1: P19231CT-ND; .PCBChecked: Victor H
footprint R0805
pins: 1, 2

## ESD9C5.0ST5G
designator D?
DIODE - TVS 5V SOD923; Manufacturer: ON Semiconductor; Capacitance: 6.2pF; Number of Elements: 1; Reverse Breakdown Voltage: 11V; Direction: Unidirectional; Power Line Protection: No; Leakage Current: 500nA; Test Current: 1mA; Max Power Dissipation: 150mW; Clamping Voltage: 10V; ESD Protection: Yes; Element Configuration: Single; Diode Type: ZENER; .SCHChecked: Alex Batista; Supplier 1: Digi-Key; Manufacturer Part Number: ESD9C5.0ST5G; RoHS: Yes; Category: ESD and Circuit Protection ICs; Stock 1: 4445; Pricing 1: 1=0,32000, 10=0,25900, 100=0,13720, 500=0,09024, 1000=0,06136, 2000=0,05535 (USD); Case/Package: SOD-923-2; Number of Pins: 2; Min Operating Temperature: -55°C; Max Operating Temperature: 150°C; Package Quantity: 1; Number of Channels: 1; Operating Supply Voltage: 5V; Packaging: Tape and Reel; Number of Unidirectional Channels: 1; Reverse Standoff Voltage: 5V; Min Breakdown Voltage: 11V; Breakdown Voltage: 11V; Polarity: Unidirectional; Termination: SMD/SMT; Working Voltage: 5V; Max Breakdown Voltage: 11V; Peak Pulse Power: 150mW; Max Reverse Leakage Current: 500nA; Number of Lines: 1; Resistor Type: Zener; Series: Automotive, AEC-Q101; Clamping Voltage-Max: 10V; Length: 0.8mm; Width: 0.65mm; Height: 0.4mm; Depth: 0.6mm; Radiation Hardening: No; REACH SVHC: No SVHC; Lead Free: Lead Free; Halogen Free: Halogen Free; RoHS Compliant: Yes; ComponentLink1URL: https://datasheet.ciiva.com/1219/1748974-1219321.pdf?src-supplier=Newark; ComponentLink1Description: https://datasheet.ciiva.com/1219/1748974-1219321.pdf?src-supplier=Newark; ComponentLink2URL: https://datasheet.ciiva.com/4509/esd9c3-3s-d-241629-4509822.pdf?src-supplier=Mouser; ComponentLink2Description: https://datasheet.ciiva.com/4509/esd9c3-3s-d-241629-4509822.pdf?src-supplier=Mouser; ComponentLink3URL: https://datasheet.ciiva.com/15143/getdatasheetpartid-53763-15143125.pdf?src-supplier=Verical; ComponentLink3Description: https://datasheet.ciiva.com/15143/getdatasheetpartid-53763-15143125.pdf?src-supplier=Verical; ComponentLink4URL: https://datasheet.ciiva.com/339/esd9c3-3s-d-339778.pdf?src-supplier=Digi-Key; ComponentLink4Description: https://datasheet.ciiva.com/339/esd9c3-3s-d-339778.pdf?src-supplier=Digi-Key; ComponentLink5URL: https://datasheet.ciiva.com/11195/esd9c3-3s-d-11195341.pdf?src-supplier=Avnet; ComponentLink5Description: https://datasheet.ciiva.com/11195/esd9c3-3s-d-11195341.pdf?src-supplier=Avnet; ComponentLink6URL: https://datasheet.ciiva.com/339/esd9c3-3s-d-339779.pdf?src-supplier=Digi-Key; ComponentLink6Description: https://datasheet.ciiva.com/339/esd9c3-3s-d-339779.pdf?src-supplier=Digi-Key; ComponentLink7URL: https://datasheet.ciiva.com/339/esd9c3-3s-d-339780.pdf?src-supplier=Digi-Key; ComponentLink7Description: https://datasheet.ciiva.com/339/esd9c3-3s-d-339780.pdf?src-supplier=Digi-Key; Supplier Part Number 1: ESD9C5.0ST5GOSCT-ND; .PCBChecked: Alex Batista
footprint ESD9C5.0ST5G
pins: 1 Cathode, 2 Anode

## ESP32-S3
designator U?
IC - SMD ESP32-S3, Dual-core Mcu,; Manufacturer: Espressif Systems; .SCHChecked: Victor H; .PCBChecked: Victor H; Supplier 1: Digi-Key; Manufacturer Part Number: ESP32-S3; RoHS: No; Stock 1: 2000; Pricing 1: 1=2,04000 (USD); Supplier Part Number 1: 1965-ESP32-S3-ND; mounting: SMD
footprint ESP32-S3 (QFN, 56-Leads, Body 7,00x7,00mm, Pitch 0,40mm, Thermal Pad 4,00x4,00mm, IPC Medium Density)
part A pins: 1 LNA_IN, 2 VDD3P3, 3 VDD3P3, 4 CHIP_PU, 5 GPIO0, 8 GPIO3, 20 VDD3P3_RTC, 28 GPIO26, 29 VDD_SPI, 30 GPIO27, 31 GPIO28, 32 GPIO29, 33 GPIO30, 34 GPIO31, 35 GPIO32, 36 GPIO48, 37 GPIO47, 44 GPIO39, 45 GPIO40, 46 VDD3P3_CPU, 47 GPIO41, 48 GPIO42, 49 GPIO43, 50 GPIO44, 53 XTAL_N, 54 XTAL_P, 55 VDDA, 56 VDDA, 57 GND
part B pins: 6 GPIO1, 7 GPIO2, 9 GPIO4, 10 GPIO5, 11 GPIO6, 12 GPIO7, 13 GPIO8, 14 GPIO9, 15 GPIO10, 16 GPIO11, 17 GPIO12, 18 GPIO13, 19 GPIO14, 21 GPIO15, 22 GPIO16, 23 GPIO17, 24 GPIO18, 25 GPIO19, 26 GPIO20, 27 GPIO21, 38 GPIO33, 39 GPIO34, 40 GPIO35, 41 GPIO36, 42 GPIO37, 43 GPIO38, 51 GPIO45, 52 GPIO46
part A text: POWER; ANTENNA; UART; RESET; SPI; CRYSTAL; BOOT PINS; JTAG
part B text: GPIO

## ESP32-S3FN8
designator U?
IC - WiFi Modules - 802.11 SMD IC , Dual-Core MCU, Wi-Fi 2.4G & BLE 5.0 combo, 8 MB Octal SPI PSRAM; Manufacturer 1: Espressif Systems; .SCHChecked: Victor H; .PCBChecked: Victor H; Supplier 1: Mouser; Manufacturer Part Number 1: ESP32-S3FN8; RoHS: No; Stock 1: 2115; Pricing 1: 1=2,49000, 10=2,49000, 50=2,49000, 100=2,49000, 1000=2,49000, 10000=2,49000 (USD); Supplier Part Number 1: 356-ESP32-S3FN8; mounting: SMD
footprint ESP32-S3 (QFN, 56-Leads, Body 7,00x7,00mm, Pitch 0,40mm, Thermal Pad 4,00x4,00mm, IPC Medium Density)
part A pins: 1 LNA_IN, 2 VDD3P3, 3 VDD3P3, 4 CHIP_PU, 5 GPIO0, 8 GPIO3, 20 VDD3P3_RTC, 28 GPIO26, 29 VDD_SPI, 30 GPIO27, 31 GPIO28, 32 GPIO29, 33 GPIO30, 34 GPIO31, 35 GPIO32, 36 GPIO48, 37 GPIO47, 44 GPIO39, 45 GPIO40, 46 VDD3P3_CPU, 47 GPIO41, 48 GPIO42, 49 GPIO43, 50 GPIO44, 53 XTAL_N, 54 XTAL_P, 55 VDDA, 56 VDDA, 57 GND
part B pins: 6 GPIO1, 7 GPIO2, 9 GPIO4, 10 GPIO5, 11 GPIO6, 12 GPIO7, 13 GPIO8, 14 GPIO9, 15 GPIO10, 16 GPIO11, 17 GPIO12, 18 GPIO13, 19 GPIO14, 21 GPIO15, 22 GPIO16, 23 GPIO17, 24 GPIO18, 25 GPIO19, 26 GPIO20, 27 GPIO21, 38 GPIO33, 39 GPIO34, 40 GPIO35, 41 GPIO36, 42 GPIO37, 43 GPIO38, 51 GPIO45, 52 GPIO46
part A text: POWER; ANTENNA; UART; RESET; SPI; CRYSTAL; BOOT PINS; JTAG
part B text: GPIO

## ESR10EZPJ472
designator R?, comment 4K7
RES - 4K7 0.4W 0805 ±5%; Manufacturer 1: Rohm; Manufacturer Part Number 1: ESR10EZPJ472; .PCBChecked: Victor Holanda; Resistance: 4.7kR; Temperature Coefficient: 200ppm/°C; Power Rating: 400mW; .SCHChecked: Victor Holanda; Supplier 1: Digi-Key; RoHS: Yes; Category: Chip SMD Resistors; Stock 1: 374197; Pricing 1: 1=0,10000, 10=0,09000, 100=0,03450, 1000=0,01518, 2500=0,01311 (USD); Case/Package: 0805; Case Code (Imperial): 0805; Case Code (Metric): 2012; Size Code: 0805; Tolerance: 5%; Features: Automotive AEC-Q200; Series: ESR; Packaging: Tape and Reel; Max Power Dissipation: 400mW; Number of Terminations: 2; Lead Free: Lead Free; RoHS Compliant: Yes; ComponentLink7URL: https://datasheet.ciiva.com/16212/esr10ezpd-16212069.pdf?src-supplier=Future+Electronics; ComponentLink7Description: https://datasheet.ciiva.com/16212/esr10ezpd-16212069.pdf?src-supplier=Future+Electronics; Supplier Part Number 1: RHM4.7KKCT-ND
footprint R0805
pins: 1, 2

## F32R-1A7H1-11024
designator J?
CONN - FPC/FFC Connector Socket 24 Position 0.5mm Bottom Contact Solder Right Angle Surface Mount T/R; Manufacturer 1: Amphenol ICC / FCI; .SCHChecked: Victor H; Supplier 1: Mouser; Manufacturer Part Number 1: F32R-1A7H1-11024; RoHS: No; Category: FFC / FPC; Stock 1: 588; Pricing 1: 1=0,82000, 10=0,64500, 50=0,64500, 100=0,56100, 500=0,50500, 1000=0,38300, 2500=0,36400, 10000=0,36400 (USD); .PCBChecked: Victor H; Supplier Part Number 1: 649-F32R-1A7H1-11024
footprint F32R1A7H111024
pins: 1 Y0, 2 Y1, 3 Y4, 4 Y3, 5 Y5, 6 Y2, 7 Y6, 8 PCLK, 9 Y7, 10 DGND, 11 Y8, 12 MCLK, 13 Y9, 14 DOVDD, 15 DVDD(1v2), 16 HREF, 17 PWDN, 18 VSYNC, 19 RESET, 20 SIO_SCL, 21 AVDD(2V8), 22 SIO_SDA, 23 AGND, 24 NC, 25 Pad1, 26 Pad2

## FID_40X1.20
designator FID?  (value not drawn)  (no BOM)
Fiducials
footprint FID_40X1.20

## GRM21BR61H106ME43L
designator C?, comment 10µF/50V
MLCC - 10µF 0805 50V X7R ±20%; Manufacturer  1: Murata; Manufacturer Part Number 1: GRM21BR61H106ME43L; .SCHChecked: Victor Holanda; .PCBChecked: Victor Holanda; Supplier 1: Digi-Key; RoHS: Yes; Category: Ceramic Capacitors; Stock 1: 199741; Pricing 1: 1=0,42000, 10=0,29400, 50=0,20560, 100=0,17620, 500=0,13216, 1000=0,11161 (USD); Supplier Part Number 1: 490-18664-1-ND
footprint C0805
pins: 1, 2

## info_project
designator GPH?  (value not drawn)  (graphical)
GRAPHICAL - Info Project
text: Title:; Variants:; Page Contents:; Revision:; Designed by:; Checked by:; Release Date:; Sheet:; of

## L_0402_JUMPER
designator L?, comment 0R
IND - 0R 0402 JUMPER; Manufacturer 1: Vishay; Manufacturer Part Number 1: CRCW04020000Z0EDC; Power Rating: 62.5mW; Resistance: 18R; .SCHChecked: Alex Batista; Supplier 1: Mouser; Stock 1: 1494844; Pricing 1: 1=0.13, 10=0.044, 50=0.044, 100=0.025, 1000=0.018, 10000=0.005 (USD); Mount: Surface Mount; Case/Package: Molded; Contact Plating: Tin; Min Operating Temperature: -55°C; Max Operating Temperature: 155°C; Composition: Thick Film; Termination: Wraparound; Length: 1mm; Lead Free: Lead Free; Supplier Part Number 1: 71-CRCW04020000Z0EDC; .PCBChecked: Alex Batista
footprint L0402
pins: 1, 2

## LQG15WZ2N0S02D
designator L?, comment 2nH
IND - 2nH 1A 0402 50mΩ ±0.3nH; Manufacturer 1: Murata; Manufacturer Part Number 1: LQG15WZ2N0S02D; .SCHChecked: Victor H; Core Material: Air; Shielding: Unshielded; DC Resistance (DCR): 50mR; Self Resonant Frequency: 8GHz; Test Frequency: 100MHz; .PCBChecked: Victor H; Supplier 1: Digi-Key; RoHS: Yes; Category: Fixed Inductors; Stock 1: 12477; Pricing 1: 1=0,14000, 10=0,12900, 25=0,11440, 50=0,09720, 100=0,08580, 250=0,07864, 500=0,07150, 1000=0,06006, 2500=0,05148 (USD); Mount: Surface Mount; Case/Package: 0402; Case Code (Imperial): 0402; Case Code (Metric): 1005; Min Operating Temperature: -55°C; Max Operating Temperature: 125°C; Packaging: Cut Tape; Inductance: 2nH; Current Rating: 1A; Ratings: AEC-Q200; RoHS Compliant: Yes; ComponentLink1URL: http://search.murata.co.jp/Ceramy/image/img/P02/JELF243B-9117.pdf?src-supplier=Digi-Key; ComponentLink1Description: http://search.murata.co.jp/Ceramy/image/img/P02/JELF243B-9117.pdf?src-supplier=Digi-Key; Supplier Part Number 1: 490-15268-1-ND
footprint L0402
pins: 1, 2

## LQG15WZ2N3S02D
designator L?, comment 2.3nH
IND - 2.3nH 1A 0402 70mΩ ±0.3nH; Manufacturer 1: Murata; Manufacturer Part Number 1: LQG15WZ2N3S02D; .SCHChecked: Alex Batista; Supplier 1: Digi-Key; Stock 1: 8750; Pricing 1: 1=0.13000, 10=0.11700, 25=0.10400, 50=0.08840, 100=0.07800, 250=0.07152, 500=0.06500, 1000=0.05460, 2500=0.04680 (USD); RoHS: No; Supplier 2: Mouser; Supplier 3: Digi-Key; Supplier 4: Digi-Key; Supplier 5: Mouser; Supplier Part Number 1: 490-LQG15WZ2N3S02DCT-ND; Supplier Part Number 2: 81-LQG15WZ2N3S02D; Supplier Part Number 3: 490-LQG15WH2N3S02DCT-ND; Supplier Part Number 4: 490-15381-1-ND; Supplier Part Number 5: 81-LQW15AN2N3D8ZD; .PCBChecked: Alex Batista
footprint L0402
pins: 1, 2

## LTST-C171KRKT
designator D?
LED - RED 2-Pin SMD 0805; Manufacturer 1: Vishay Lite-On; Lens Color: Colorless; Viewing Angle: 130°; Lens Style: Diffused,Colorless,Rectangular,Clear; Forward Current: 30mA; Forward Voltage: 2V; Luminous Intensity: 54mcd; Lens Transparency: Clear; Test Current: 20mA; Dominant Wavelength: 631nm; Number of Elements: 1; Power Dissipation: 75mW; Wavelength: 639nm; Reverse Voltage: 5V; .SCHChecked: Jonatha O.; Supplier 1: Digi-Key; Manufacturer Part Number 1: LTST-C171KRKT; Stock 1: 300217; Pricing 1: 1=0.28000, 10=0.15000, 100=0.06990, 500=0.06450, 1000=0.05052 (USD); RoHS: Yes; Mount: Surface Mount; Case/Package: 0805; Number of Pins: 2; Color: Red; Case Code (Metric): 2012; Case Code (Imperial): 0805; Min Operating Temperature: -55°C; Max Operating Temperature: 85°C; Package Quantity: 3000; Packaging: Tape and Reel; Illumination Color: Red; Number of LEDs: 1; Series: -; Power Rating: 75mW; Length: 2mm; Width: 1.25mm; Height: 0.8mm; Depth: 1.25mm; Radiation Hardening: No; Lead Free: Lead Free; RoHS Compliant: Yes; ComponentLink1URL: https://datasheet.ciiva.com/12403/lite-on-ltst-c171krkt-187201-12403781.pdf?src-supplier=Mouser; ComponentLink1Description: https://datasheet.ciiva.com/12403/lite-on-ltst-c171krkt-187201-12403781.pdf?src-supplier=Mouser; ComponentLink2URL: https://datasheet.ciiva.com/11775/0900766b80dc0299-11775643.pdf?src-supplier=RSComponents; ComponentLink2Description: https://datasheet.ciiva.com/11775/0900766b80dc0299-11775643.pdf?src-supplier=RSComponents; ComponentLink3URL: https://datasheet.ciiva.com/16444/lite-on20ltst-c171krkt-16444779.pdf?src-supplier=Future+Electronics; ComponentLink3Description: https://datasheet.ciiva.com/16444/lite-on20ltst-c171krkt-16444779.pdf?src-supplier=Future+Electronics; ComponentLink4URL: https://datasheet.ciiva.com/2110/s-110-ltst-c171krkt-2110066.pdf?src-supplier=Digi-Key; ComponentLink4Description: https://datasheet.ciiva.com/2110/s-110-ltst-c171krkt-2110066.pdf?src-supplier=Digi-Key; ComponentLink5URL: https://datasheet.ciiva.com/2110/s-110-ltst-c171krkt-2110067.pdf?src-supplier=Digi-Key; ComponentLink5Description: https://datasheet.ciiva.com/2110/s-110-ltst-c171krkt-2110067.pdf?src-supplier=Digi-Key; ComponentLink6URL: https://datasheet.ciiva.com/2110/s-110-ltst-c171krkt-2110068.pdf?src-supplier=Digi-Key; ComponentLink6Description: https://datasheet.ciiva.com/2110/s-110-ltst-c171krkt-2110068.pdf?src-supplier=Digi-Key; Supplier Part Number 1: 160-1427-1-ND; .PCBChecked: Jonatha O.
footprint LTST-C171KRKT
pins: 1, 2